# Altium footprint library PcbLib1.PcbLib: 1 footprints
Each footprint in its own frame and in the unit in brackets; x right, y up, seen from the top. Pads: shape width x height; smd on the part's side, far side on the other; paste and mask are expansions set on the pad; w line width, h text height; cw(c..) or ccw(c..) is an arc to the next point about the centre after c.
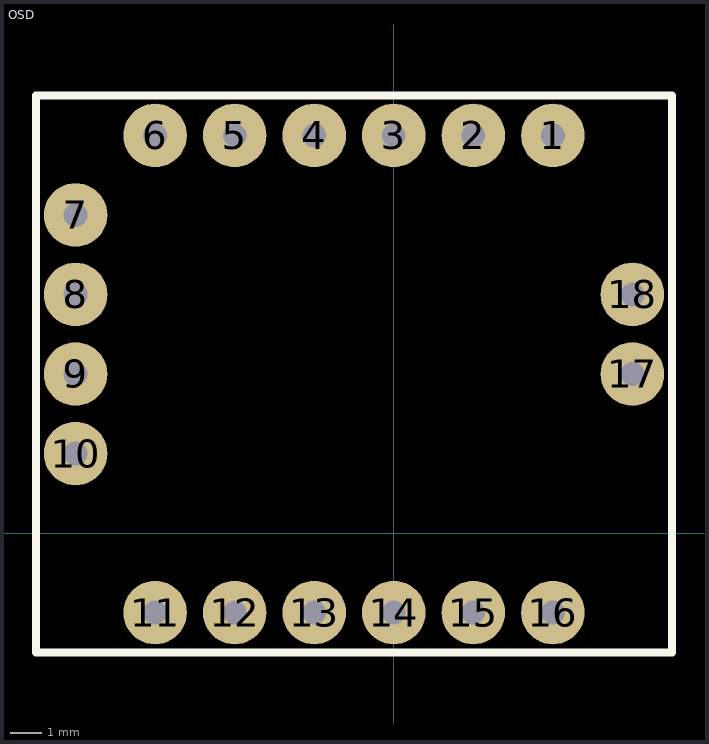
[diagram p0: the footprint, top view; thin cyan lines are the x and y axes]

## OSD [mil]
pads (18):
  round 80 hole 30: 1(200,500) 2(100,500) 3(0,500) 4(-100,500) 5(-200,500) 6(-300,500) 7(-400,400) 8(-400,300) 9(-400,200) 10(-400,100) 11(-300,-100) 12(-200,-100) 13(-100,-100) 14(0,-100) 15(100,-100) 16(200,-100) 17(300,200) 18(300,300)
Top Overlay:
  lines w10: -450,-150 350,-150 350,550 -450,550 -450,-150